# Altium footprint library FFC_FPC_P1.0.PcbLib: 29 footprints (part 2 of 2)
Each footprint in its own frame and in the unit in brackets; x right, y up, seen from the top. Pads: shape width x height; smd on the part's side, far side on the other; paste and mask are expansions set on the pad; w line width, h text height; cw(c..) or ccw(c..) is an arc to the next point about the centre after c.
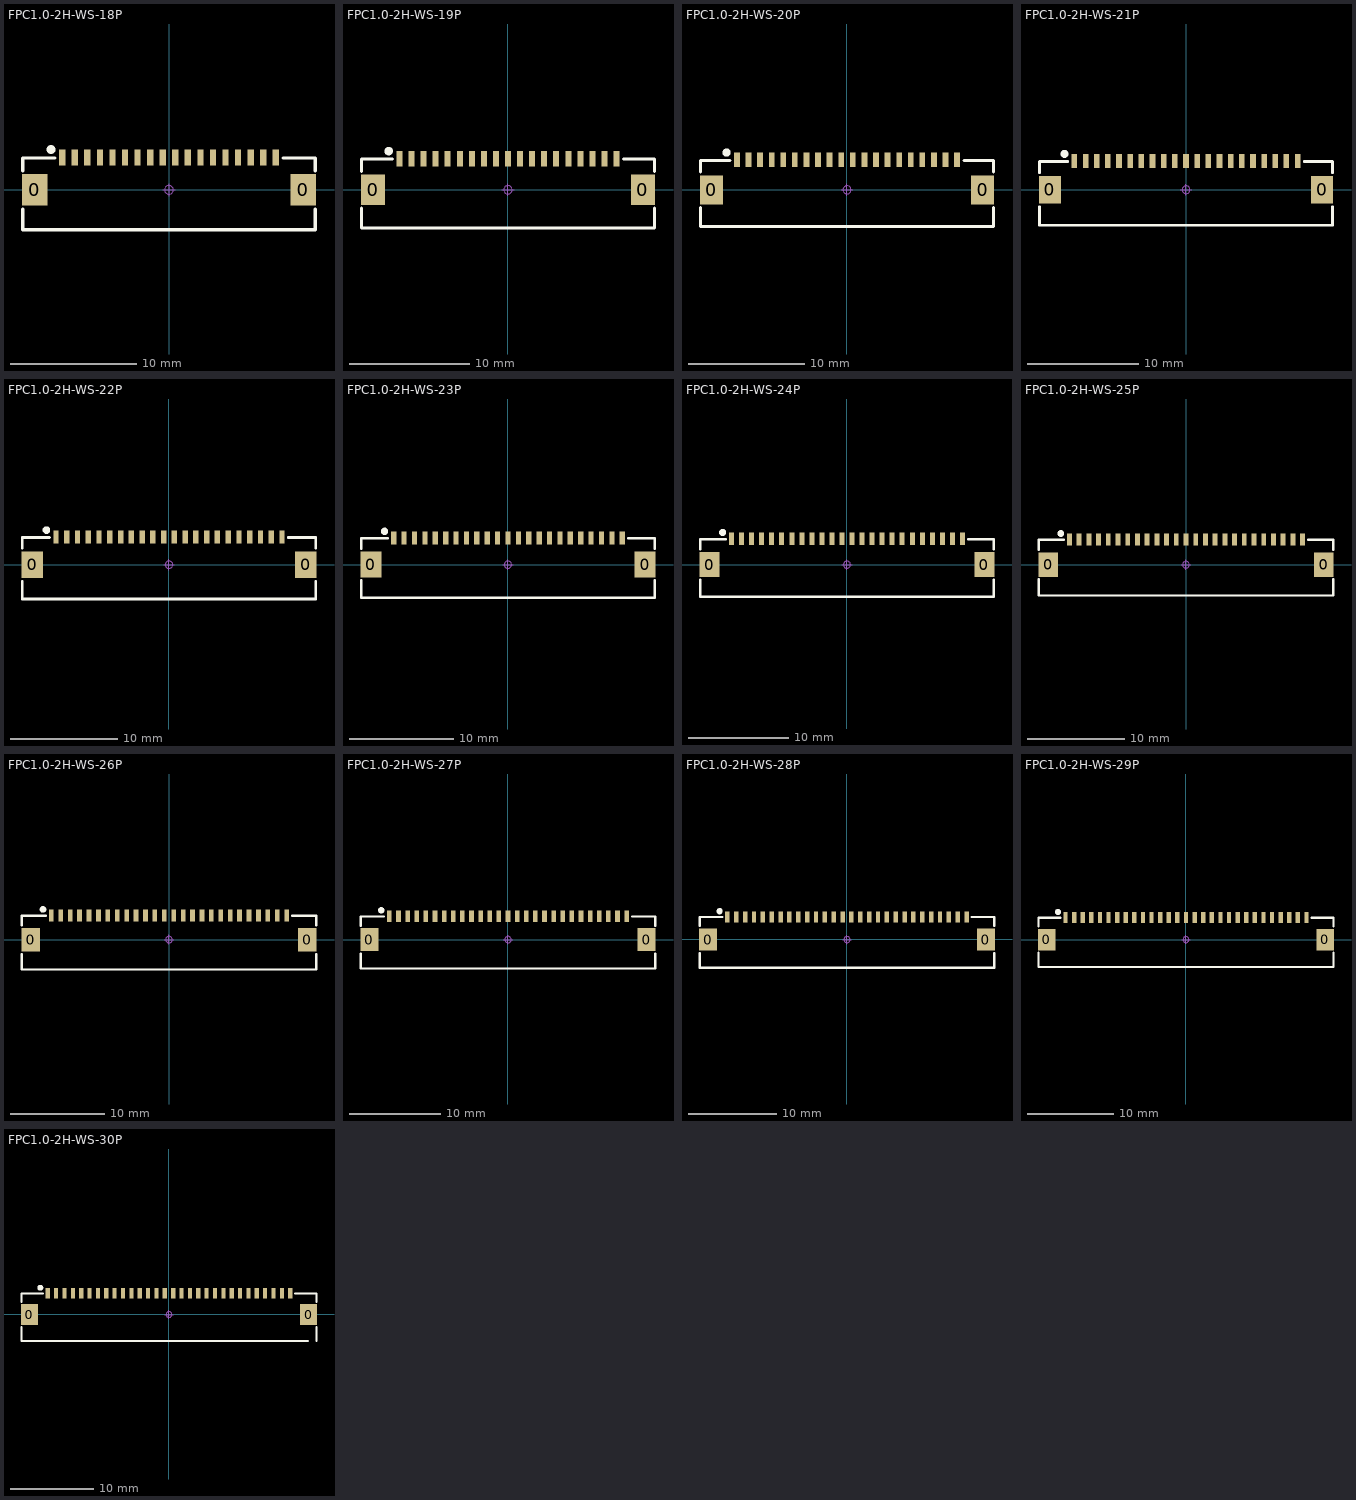
[diagram p1: the footprints below, top view; thin cyan lines are the x and y axes]

## FPC1.0-2H-WS-18P [mm] "翻盖FPC，脚距1mm，不含脚（长22.9mm，宽5.2mm，高1.96mm）"
pads (20):
  rect 2x2.5 smd: 0(-10.69,0) 0(10.69,0)
  rect 0.5x1.25 smd: 1(-8.5,2.575) 2(-7.5,2.575) 3(-6.5,2.575) 4(-5.5,2.575) 5(-4.5,2.575) 6(-3.5,2.575) 7(-2.5,2.575) 8(-1.5,2.575) 9(-0.5,2.575) 10(0.5,2.575) 11(1.5,2.575) 12(2.5,2.575) 13(3.5,2.575) 14(4.5,2.575) 15(5.5,2.575) 16(6.5,2.575) 17(7.5,2.575) 18(8.5,2.575)
Top Overlay:
  circle w0.5: c-9.389,3.21 r0.1
  lines w0.254: -11.636,-1.524 -11.636,-3.175 11.634,-3.175 11.634,-1.524 ; -11.636,1.524 -11.636,2.54 -9.096,2.54 ; 9.094,2.54 11.634,2.54 11.634,1.524
Mechanical 15:
  circle w0.05: c0,0 r0.35
  lines w0.05: -0.5,0 0.5,0 ; 0,-0.5 0,0.5
3D body "FPC1.0 2H-WS-18P.STEP": height 2, standoff -0.02, extent -11.45,-3.15 11.45,2.85

## FPC1.0-2H-WS-19P [mm] "翻盖FPC，脚距1mm，不含脚（长23.9mm，宽5.2mm，高1.96mm）"
pads (21):
  rect 2x2.5 smd: 0(-11.19,0) 0(11.19,0)
  rect 0.5x1.25 smd: 1(-9,2.575) 2(-8,2.575) 3(-7,2.575) 4(-6,2.575) 5(-5,2.575) 6(-4,2.575) 7(-3,2.575) 8(-2,2.575) 9(-1,2.575) 10(0,2.575) 11(1,2.575) 12(2,2.575) 13(3,2.575) 14(4,2.575) 15(5,2.575) 16(6,2.575) 17(7,2.575) 18(8,2.575) 19(9,2.575)
Top Overlay:
  circle w0.5: c-9.889,3.21 r0.1
  lines w0.254: -12.136,-1.524 -12.136,-3.175 12.134,-3.175 12.134,-1.524 ; -12.136,1.524 -12.136,2.54 -9.596,2.54 ; 9.594,2.54 12.134,2.54 12.134,1.524
Mechanical 15:
  circle w0.05: c0,0 r0.35
  lines w0.05: -0.5,0 0.5,0 ; 0,-0.5 0,0.5
3D body "FPC1.0 2H-WS-19P.STEP": height 2, standoff -0.02, extent -11.95,-3.15 11.95,2.85

## FPC1.0-2H-WS-20P [mm] "翻盖FPC，脚距1mm，不含脚（长24.9mm，宽5.2mm，高1.96mm）"
pads (22):
  rect 2x2.5 smd: 0(-11.69,0) 0(11.69,0)
  rect 0.5x1.25 smd: 1(-9.5,2.575) 2(-8.5,2.575) 3(-7.5,2.575) 4(-6.5,2.575) 5(-5.5,2.575) 6(-4.5,2.575) 7(-3.5,2.575) 8(-2.5,2.575) 9(-1.5,2.575) 10(-0.5,2.575) 11(0.5,2.575) 12(1.5,2.575) 13(2.5,2.575) 14(3.5,2.575) 15(4.5,2.575) 16(5.5,2.575) 17(6.5,2.575) 18(7.5,2.575) 19(8.5,2.575) 20(9.5,2.575)
Top Overlay:
  circle w0.5: c-10.389,3.21 r0.1
  lines w0.254: -12.636,-1.524 -12.636,-3.175 12.634,-3.175 12.634,-1.524 ; -12.636,1.524 -12.636,2.54 -10.096,2.54 ; 10.094,2.54 12.634,2.54 12.634,1.524
Mechanical 15:
  circle w0.05: c0,0 r0.35
  lines w0.05: -0.5,0 0.5,0 ; 0,-0.5 0,0.5
3D body "FPC1.0 2H-WS-20P.STEP": height 2, standoff -0.02, extent -12.45,-3.15 12.45,2.85

## FPC1.0-2H-WS-21P [mm] "翻盖FPC，脚距1mm，不含脚（长25.9mm，宽5.2mm，高1.96mm）"
pads (23):
  rect 2x2.5 smd: 0(-12.19,0) 0(12.19,0)
  rect 0.5x1.25 smd: 1(-10,2.575) 2(-9,2.575) 3(-8,2.575) 4(-7,2.575) 5(-6,2.575) 6(-5,2.575) 7(-4,2.575) 8(-3,2.575) 9(-2,2.575) 10(-1,2.575) 11(0,2.575) 12(1,2.575) 13(2,2.575) 14(3,2.575) 15(4,2.575) 16(5,2.575) 17(6,2.575) 18(7,2.575) 19(8,2.575) 20(9,2.575) 21(10,2.575)
Top Overlay:
  circle w0.5: c-10.889,3.21 r0.1
  lines w0.254: -13.136,-1.524 -13.136,-3.175 13.134,-3.175 13.134,-1.524 ; -13.136,1.524 -13.136,2.54 -10.596,2.54 ; 10.594,2.54 13.134,2.54 13.134,1.524
Mechanical 15:
  circle w0.05: c0,0 r0.35
  lines w0.05: -0.5,0 0.5,0 ; 0,-0.5 0,0.5
3D body "FPC1.0 2H-WS-21P.STEP": height 2, standoff -0.02, extent -12.95,-3.15 12.95,2.85

## FPC1.0-2H-WS-22P [mm] "翻盖FPC，脚距1mm，不含脚（长26.9mm，宽5.2mm，高1.96mm）"
pads (24):
  rect 2x2.5 smd: 0(-12.69,0) 0(12.69,0)
  rect 0.5x1.25 smd: 1(-10.5,2.575) 2(-9.5,2.575) 3(-8.5,2.575) 4(-7.5,2.575) 5(-6.5,2.575) 6(-5.5,2.575) 7(-4.5,2.575) 8(-3.5,2.575) 9(-2.5,2.575) 10(-1.5,2.575) 11(-0.5,2.575) 12(0.5,2.575) 13(1.5,2.575) 14(2.5,2.575) 15(3.5,2.575) 16(4.5,2.575) 17(5.5,2.575) 18(6.5,2.575) 19(7.5,2.575) 20(8.5,2.575) 21(9.5,2.575) 22(10.5,2.575)
Top Overlay:
  circle w0.5: c-11.389,3.21 r0.1
  lines w0.254: -13.636,-1.524 -13.636,-3.175 13.634,-3.175 13.634,-1.524 ; -13.636,1.524 -13.636,2.54 -11.096,2.54 ; 11.094,2.54 13.634,2.54 13.634,1.524
Mechanical 15:
  circle w0.05: c0,0 r0.35
  lines w0.05: -0.5,0 0.5,0 ; 0,-0.5 0,0.5
3D body "FPC1.0 2H-WS-22P.STEP": height 2, standoff -0.02, extent -13.45,-3.15 13.45,2.85

## FPC1.0-2H-WS-23P [mm] "翻盖FPC，脚距1mm，不含脚（长27.9mm，宽5.2mm，高1.96mm）"
pads (25):
  rect 2x2.5 smd: 0(-13.19,0) 0(13.19,0)
  rect 0.5x1.25 smd: 1(-11,2.575) 2(-10,2.575) 3(-9,2.575) 4(-8,2.575) 5(-7,2.575) 6(-6,2.575) 7(-5,2.575) 8(-4,2.575) 9(-3,2.575) 10(-2,2.575) 11(-1,2.575) 12(0,2.575) 13(1,2.575) 14(2,2.575) 15(3,2.575) 16(4,2.575) 17(5,2.575) 18(6,2.575) 19(7,2.575) 20(8,2.575) 21(9,2.575) 22(10,2.575) 23(11,2.575)
Top Overlay:
  circle w0.5: c-11.889,3.21 r0.1
  lines w0.254: -14.136,-1.524 -14.136,-3.175 14.134,-3.175 14.134,-1.524 ; -14.136,1.524 -14.136,2.54 -11.596,2.54 ; 11.594,2.54 14.134,2.54 14.134,1.524
Mechanical 15:
  circle w0.05: c0,0 r0.35
  lines w0.05: -0.5,0 0.5,0 ; 0,-0.5 0,0.5
3D body "FPC1.0 2H-WS-23P.STEP": height 2, standoff -0.02, extent -13.95,-3.15 13.95,2.85

## FPC1.0-2H-WS-24P [mm] "翻盖FPC，脚距1mm，不含脚（长28.9mm，宽5.2mm，高1.96mm）"
pads (26):
  rect 2x2.5 smd: 0(-13.69,0) 0(13.69,0)
  rect 0.5x1.25 smd: 1(-11.5,2.575) 2(-10.5,2.575) 3(-9.5,2.575) 4(-8.5,2.575) 5(-7.5,2.575) 6(-6.5,2.575) 7(-5.5,2.575) 8(-4.5,2.575) 9(-3.5,2.575) 10(-2.5,2.575) 11(-1.5,2.575) 12(-0.5,2.575) 13(0.5,2.575) 14(1.5,2.575) 15(2.5,2.575) 16(3.5,2.575) 17(4.5,2.575) 18(5.5,2.575) 19(6.5,2.575) 20(7.5,2.575) 21(8.5,2.575) 22(9.5,2.575) 23(10.5,2.575) 24(11.5,2.575)
Top Overlay:
  circle w0.5: c-12.389,3.21 r0.1
  lines w0.254: -14.636,-1.524 -14.636,-3.175 14.634,-3.175 14.634,-1.524 ; -14.636,1.524 -14.636,2.54 -12.096,2.54 ; 12.094,2.54 14.634,2.54 14.634,1.524
Mechanical 15:
  circle w0.05: c0,0 r0.35
  lines w0.05: -0.5,0 0.5,0 ; 0,-0.5 0,0.5
3D body "FPC1.0 2H-WS-24P.STEP": height 2, standoff -0.02, extent -14.45,-3.15 14.45,2.85

## FPC1.0-2H-WS-25P [mm] "翻盖FPC，脚距1mm，不含脚（长29.9mm，宽5.2mm，高1.96mm）"
pads (27):
  rect 2x2.5 smd: 0(-14.19,0) 0(14.19,0)
  rect 0.5x1.25 smd: 1(-12,2.575) 2(-11,2.575) 3(-10,2.575) 4(-9,2.575) 5(-8,2.575) 6(-7,2.575) 7(-6,2.575) 8(-5,2.575) 9(-4,2.575) 10(-3,2.575) 11(-2,2.575) 12(-1,2.575) 13(0,2.575) 14(1,2.575) 15(2,2.575) 16(3,2.575) 17(4,2.575) 18(5,2.575) 19(6,2.575) 20(7,2.575) 21(8,2.575) 22(9,2.575) 23(10,2.575) 24(11,2.575) 25(12,2.575)
Top Overlay:
  circle w0.5: c-12.889,3.21 r0.1
  lines w0.254: -15.136,-1.524 -15.136,-3.175 15.134,-3.175 15.134,-1.524 ; -15.136,1.524 -15.136,2.54 -12.596,2.54 ; 12.594,2.54 15.134,2.54 15.134,1.524
Mechanical 15:
  circle w0.05: c0,0 r0.35
  lines w0.05: -0.5,0 0.5,0 ; 0,-0.5 0,0.5
3D body "FPC1.0 2H-WS-25P.STEP": height 2, standoff -0.02, extent -14.95,-3.15 14.95,2.85

## FPC1.0-2H-WS-26P [mm] "翻盖FPC，脚距1mm，不含脚（长30.9mm，宽5.2mm，高1.96mm）"
pads (28):
  rect 2x2.5 smd: 0(-14.69,0) 0(14.69,0)
  rect 0.5x1.25 smd: 1(-12.5,2.575) 2(-11.5,2.575) 3(-10.5,2.575) 4(-9.5,2.575) 5(-8.5,2.575) 6(-7.5,2.575) 7(-6.5,2.575) 8(-5.5,2.575) 9(-4.5,2.575) 10(-3.5,2.575) 11(-2.5,2.575) 12(-1.5,2.575) 13(-0.5,2.575) 14(0.5,2.575) 15(1.5,2.575) 16(2.5,2.575) 17(3.5,2.575) 18(4.5,2.575) 19(5.5,2.575) 20(6.5,2.575) 21(7.5,2.575) 22(8.5,2.575) 23(9.5,2.575) 24(10.5,2.575) 25(11.5,2.575) 26(12.5,2.575)
Top Overlay:
  circle w0.5: c-13.389,3.21 r0.1
  lines w0.254: -15.636,-1.524 -15.636,-3.175 15.634,-3.175 15.634,-1.524 ; -15.636,1.524 -15.636,2.54 -13.096,2.54 ; 13.094,2.54 15.634,2.54 15.634,1.524
Mechanical 15:
  circle w0.05: c0,0 r0.35
  lines w0.05: -0.5,0 0.5,0 ; 0,-0.5 0,0.5
3D body "FPC1.0 2H-WS-26P.STEP": height 2, standoff -0.02, extent -15.45,-3.15 15.45,2.85

## FPC1.0-2H-WS-27P [mm] "翻盖FPC，脚距1mm，不含脚（长31.9mm，宽5.2mm，高1.96mm）"
pads (29):
  rect 2x2.5 smd: 0(-15.19,0) 0(15.19,0)
  rect 0.5x1.25 smd: 1(-13,2.575) 2(-12,2.575) 3(-11,2.575) 4(-10,2.575) 5(-9,2.575) 6(-8,2.575) 7(-7,2.575) 8(-6,2.575) 9(-5,2.575) 10(-4,2.575) 11(-3,2.575) 12(-2,2.575) 13(-1,2.575) 14(0,2.575) 15(1,2.575) 16(2,2.575) 17(3,2.575) 18(4,2.575) 19(5,2.575) 20(6,2.575) 21(7,2.575) 22(8,2.575) 23(9,2.575) 24(10,2.575) 25(11,2.575) 26(12,2.575) 27(13,2.575)
Top Overlay:
  circle w0.5: c-13.889,3.21 r0.1
  lines w0.254: -16.136,-1.524 -16.136,-3.175 16.134,-3.175 16.134,-1.524 ; -16.136,1.524 -16.136,2.54 -13.596,2.54 ; 13.594,2.54 16.134,2.54 16.134,1.524
Mechanical 15:
  circle w0.05: c0,0 r0.35
  lines w0.05: -0.5,0 0.5,0 ; 0,-0.5 0,0.5
3D body "FPC1.0 2H-WS-27P.STEP": height 2, standoff -0.02, extent -15.95,-3.15 15.95,2.85

## FPC1.0-2H-WS-28P [mm] "翻盖FPC，脚距1mm，不含脚（长32.9mm，宽5.2mm，高1.96mm）"
pads (30):
  rect 2x2.5 smd: 0(-15.69,-0.04) 0(15.69,-0.04)
  rect 0.5x1.25 smd: 1(-13.5,2.535) 2(-12.5,2.535) 3(-11.5,2.535) 4(-10.5,2.535) 5(-9.5,2.535) 6(-8.5,2.535) 7(-7.5,2.535) 8(-6.5,2.535) 9(-5.5,2.535) 10(-4.5,2.535) 11(-3.5,2.535) 12(-2.5,2.535) 13(-1.5,2.535) 14(-0.5,2.535) 15(0.5,2.535) 16(1.5,2.535) 17(2.5,2.535) 18(3.5,2.535) 19(4.5,2.535) 20(5.5,2.535) 21(6.5,2.535) 22(7.5,2.535) 23(8.5,2.535) 24(9.5,2.535) 25(10.5,2.535) 26(11.5,2.535) 27(12.5,2.535) 28(13.5,2.535)
Top Overlay:
  circle w0.5: c-14.389,3.17 r0.1
  lines w0.254: -16.636,-1.564 -16.636,-3.215 16.634,-3.215 16.634,-1.564 ; -16.636,1.484 -16.636,2.5 -14.096,2.5 ; 14.094,2.5 16.634,2.5 16.634,1.484
Mechanical 15:
  circle w0.05: c0,-0.04 r0.35
  lines w0.05: -0.5,-0.04 0.5,-0.04 ; 0,-0.54 0,0.46
3D body "FPC1.0 2H-WS-28P.STEP": height 2, standoff -0.02, extent -16.45,-3.19 16.45,2.81

## FPC1.0-2H-WS-29P [mm] "翻盖FPC，脚距1mm，不含脚（长33.9mm，宽5.2mm，高1.96mm）"
pads (31):
  rect 2x2.5 smd: 0(-16.19,0) 0(16.19,0)
  rect 0.5x1.25 smd: 1(-14,2.575) 2(-13,2.575) 3(-12,2.575) 4(-11,2.575) 5(-10,2.575) 6(-9,2.575) 7(-8,2.575) 8(-7,2.575) 9(-6,2.575) 10(-5,2.575) 11(-4,2.575) 12(-3,2.575) 13(-2,2.575) 14(-1,2.575) 15(0,2.575) 16(1,2.575) 17(2,2.575) 18(3,2.575) 19(4,2.575) 20(5,2.575) 21(6,2.575) 22(7,2.575) 23(8,2.575) 24(9,2.575) 25(10,2.575) 26(11,2.575) 27(12,2.575) 28(13,2.575) 29(14,2.575)
Top Overlay:
  circle w0.5: c-14.889,3.21 r0.1
  lines w0.254: -17.136,-1.524 -17.136,-3.175 17.134,-3.175 17.134,-1.524 ; -17.136,1.524 -17.136,2.54 -14.596,2.54 ; 14.594,2.54 17.134,2.54 17.134,1.524
Mechanical 15:
  circle w0.05: c0,0 r0.35
  lines w0.05: -0.5,0 0.5,0 ; 0,-0.5 0,0.5
3D body "FPC1.0 2H-WS-29P.STEP": height 2, standoff -0.02, extent -16.95,-3.15 16.95,2.85

## FPC1.0-2H-WS-30P [mm] "翻盖FPC，脚距1mm，不含脚（长34.9mm，宽5.2mm，高1.96mm）"
pads (32):
  rect 2x2.5 smd: 0(-16.69,-0.04) 0(16.69,-0.04)
  rect 0.5x1.25 smd: 1(-14.5,2.535) 2(-13.5,2.535) 3(-12.5,2.535) 4(-11.5,2.535) 5(-10.5,2.535) 6(-9.5,2.535) 7(-8.5,2.535) 8(-7.5,2.535) 9(-6.5,2.535) 10(-5.5,2.535) 11(-4.5,2.535) 12(-3.5,2.535) 13(-2.5,2.535) 14(-1.5,2.535) 15(-0.5,2.535) 16(0.5,2.535) 17(1.5,2.535) 18(2.5,2.535) 19(3.5,2.535) 20(4.5,2.535) 21(5.5,2.535) 22(6.5,2.535) 23(7.5,2.535) 24(8.5,2.535) 25(9.5,2.535) 26(10.5,2.535) 27(11.5,2.535) 28(12.5,2.535) 29(13.5,2.535) 30(14.5,2.535)
Top Overlay:
  circle w0.5: c-15.389,3.17 r0.1
  lines w0.254: -17.636,-1.564 -17.636,-3.215 16.634,-3.215 ; -17.636,1.484 -17.636,2.5 -15.096,2.5 ; 15.094,2.5 17.634,2.5 17.634,1.484 ; 17.634,-3.215 17.634,-1.564
Mechanical 15:
  circle w0.05: c0,-0.04 r0.35
  lines w0.05: -0.5,-0.04 0.5,-0.04 ; 0,-0.54 0,0.46
3D body "FPC1.0 2H-WS-30P.STEP": height 2, standoff -0.02, extent -17.45,-3.19 17.45,2.81